# Altium footprint library PZEM-004T.PcbLib: 19 footprints (part 2 of 2)
Each footprint in its own frame and in the unit in brackets; x right, y up, seen from the top. Pads: shape width x height; smd on the part's side, far side on the other; paste and mask are expansions set on the pad; w line width, h text height; cw(c..) or ccw(c..) is an arc to the next point about the centre after c.
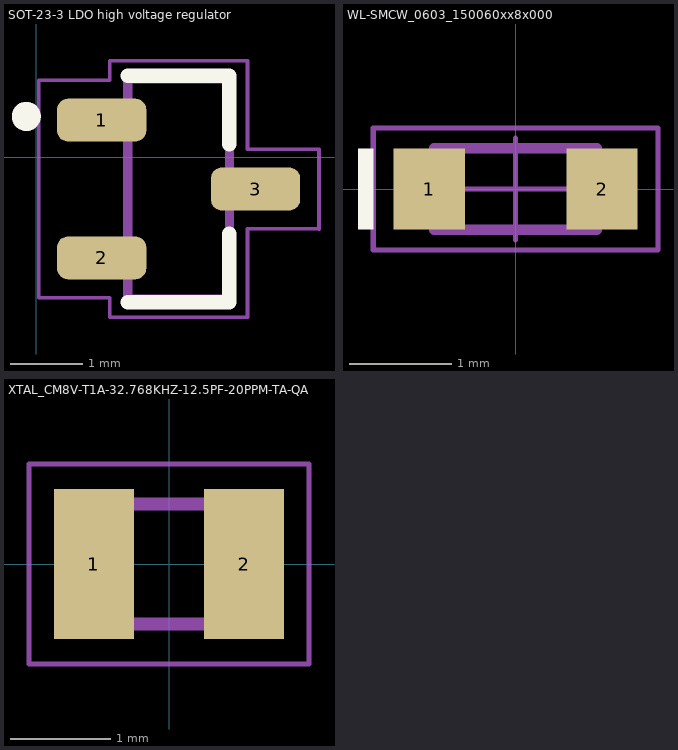
[diagram p1: the footprints below, top view; thin cyan lines are the x and y axes]

## SOT-23-3 LDO high voltage regulator [mm]
pads (3):
  rrect50% 1.23x0.59 smd: 1(0.901,0.514) 2(0.901,-1.386) 3(3.021,-0.436)
Top Overlay:
  circle w0.2: c-0.139,0.564 r0.1
  lines w0.2: 1.261,-1.996 2.661,-1.996 2.661,-1.056 ; 1.261,1.124 2.661,1.124 2.661,0.184
Mechanical 13:
  circle w0.2: c-0.139,0.564 r0.1
  lines w0.127: 1.261,-1.956 2.661,-1.956 2.661,1.084 1.261,1.084 1.261,-1.956
Mechanical 15:
  lines w0.05: 3.891,-0.986 2.911,-0.986 2.911,-2.206 1.011,-2.206 1.011,-1.936 0.031,-1.936 0.031,1.064 1.011,1.064 1.011,1.334 2.911,1.334 2.911,0.114 3.891,0.114 ; 3.896,-0.991 3.896,0.109
3D body "MAX810LEUR+T.STEP": height 1.12, standoff 0, extent 0.81,-1.923 3.16,0.997

## WL-SMCW_0603_150060xx8x000 [mm] "SMD Mono-color Chip LED, body 1.6x0.8mm"
height 0.95
pads (2):
  rect 0.7x0.8 smd: 1(-0.85,0) 2(0.85,0)
Top Overlay:
  rectangle: -1.55,-0.4 -1.4,0.4
Top Courtyard:
  lines w0.05: -1.4,-0.6 1.4,-0.6 1.4,0.6 -1.4,0.6 -1.4,-0.6
Top Component Outline:
  rectangle: -0.8,-0.4 -0.5,0.4
  lines w0.1: -0.8,-0.4 0.8,-0.4 0.8,0.4 -0.8,0.4 -0.8,-0.4
Top Component Center:
  lines w0.05: -0.5,0 0.5,0 ; 0,-0.5 0,0.5
Top Designator:
  text ".Designator" at -2.499,-0.167 h0.5
3D body "150060xx86000.stp": height 0.95, standoff 0, extent -0.8,-0.4 0.8,0.4

## XTAL_CM8V-T1A-32.768KHZ-12.5PF-20PPM-TA-QA [mm]
height 0.6
pads (2):
  rect 0.8x1.5 smd: 1(-0.75,0) 2(0.75,0)
Mechanical 13:
  lines w0.127: -1,-0.6 -1,0.6 1,0.6 1,-0.6 -1,-0.6
Mechanical 15:
  lines w0.05: -1.4,-1 -1.4,1 1.4,1 1.4,-1 -1.4,-1
3D body "step_temp.STEP": height 0.6, standoff 0, extent -1,-0.6 1,0.6